# EAGLE library part MAX7219 (library icmi-ics)
MAX7219 - Serially Interfaced, 8-Digit LED Display Driver
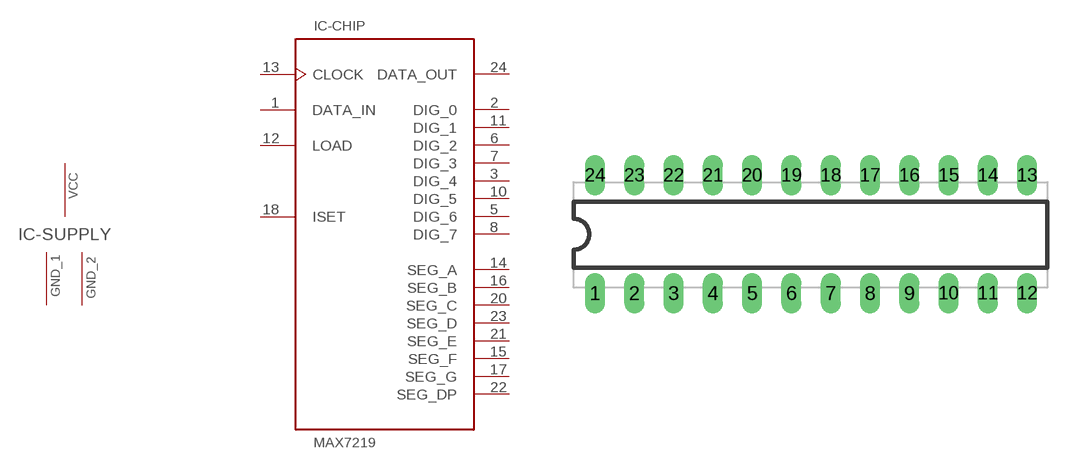
[diagram p3: symbol with the pads of DIP-24; footprint DIP-24]

Designator prefix IC; gates -SUPPLY=1PWR_2GND -CHIP=MAX7219

## MAX7219CNG  [DIP-24]
1  -CHIP:DATA_IN  in
2  -CHIP:DIG_0  in
3  -CHIP:DIG_4  in
4  -SUPPLY:GND_1  pwr
5  -CHIP:DIG_6  in
6  -CHIP:DIG_2  in
7  -CHIP:DIG_3  in
8  -CHIP:DIG_7  in
9  -SUPPLY:GND_2  pwr
10  -CHIP:DIG_5  in
11  -CHIP:DIG_1  in
12  -CHIP:LOAD  in
13  -CHIP:CLOCK  in
14  -CHIP:SEG_A  out
15  -CHIP:SEG_F  out
16  -CHIP:SEG_B  out
17  -CHIP:SEG_G
18  -CHIP:ISET  in
19  -SUPPLY:VCC  pwr
20  -CHIP:SEG_C  out
21  -CHIP:SEG_E  out
22  -CHIP:SEG_DP  out
23  -CHIP:SEG_D  out
24  -CHIP:DATA_OUT  out

## Footprint DIP-24 (pad centres in mm)
DIP-24
drill 0.8 long: 1 -13.97,-3.81; 2 -11.43,-3.81; 3 -8.89,-3.81; 4 -6.35,-3.81; 5 -3.81,-3.81; 6 -1.27,-3.81; 7 1.27,-3.81; 8 3.81,-3.81; 9 6.35,-3.81; 10 8.89,-3.81; 11 11.43,-3.81; 12 13.97,-3.81; 13 13.97,3.81; 14 11.43,3.81; 15 8.89,3.81; 16 6.35,3.81; 17 3.81,3.81; 18 1.27,3.81; 19 -1.27,3.81; 20 -3.81,3.81; 21 -6.35,3.81; 22 -8.89,3.81; 23 -11.43,3.81; 24 -13.97,3.81